# Altium schematic symbol library SMA-KE.SchLib: 1 symbol
Pins are listed as number, name and electrical type; pins without a type are passive.

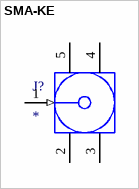
[diagram p0: symbol SMA-KE]

## SMA-KE
designator J?
Connector - line
pins: 1 Signal (in) "Signal Pin", 2, 3, 4, 5